# Altium schematic symbol library OpAmps.SchLib: 21 symbols
Pins are listed as number, name and electrical type; pins without a type are passive.

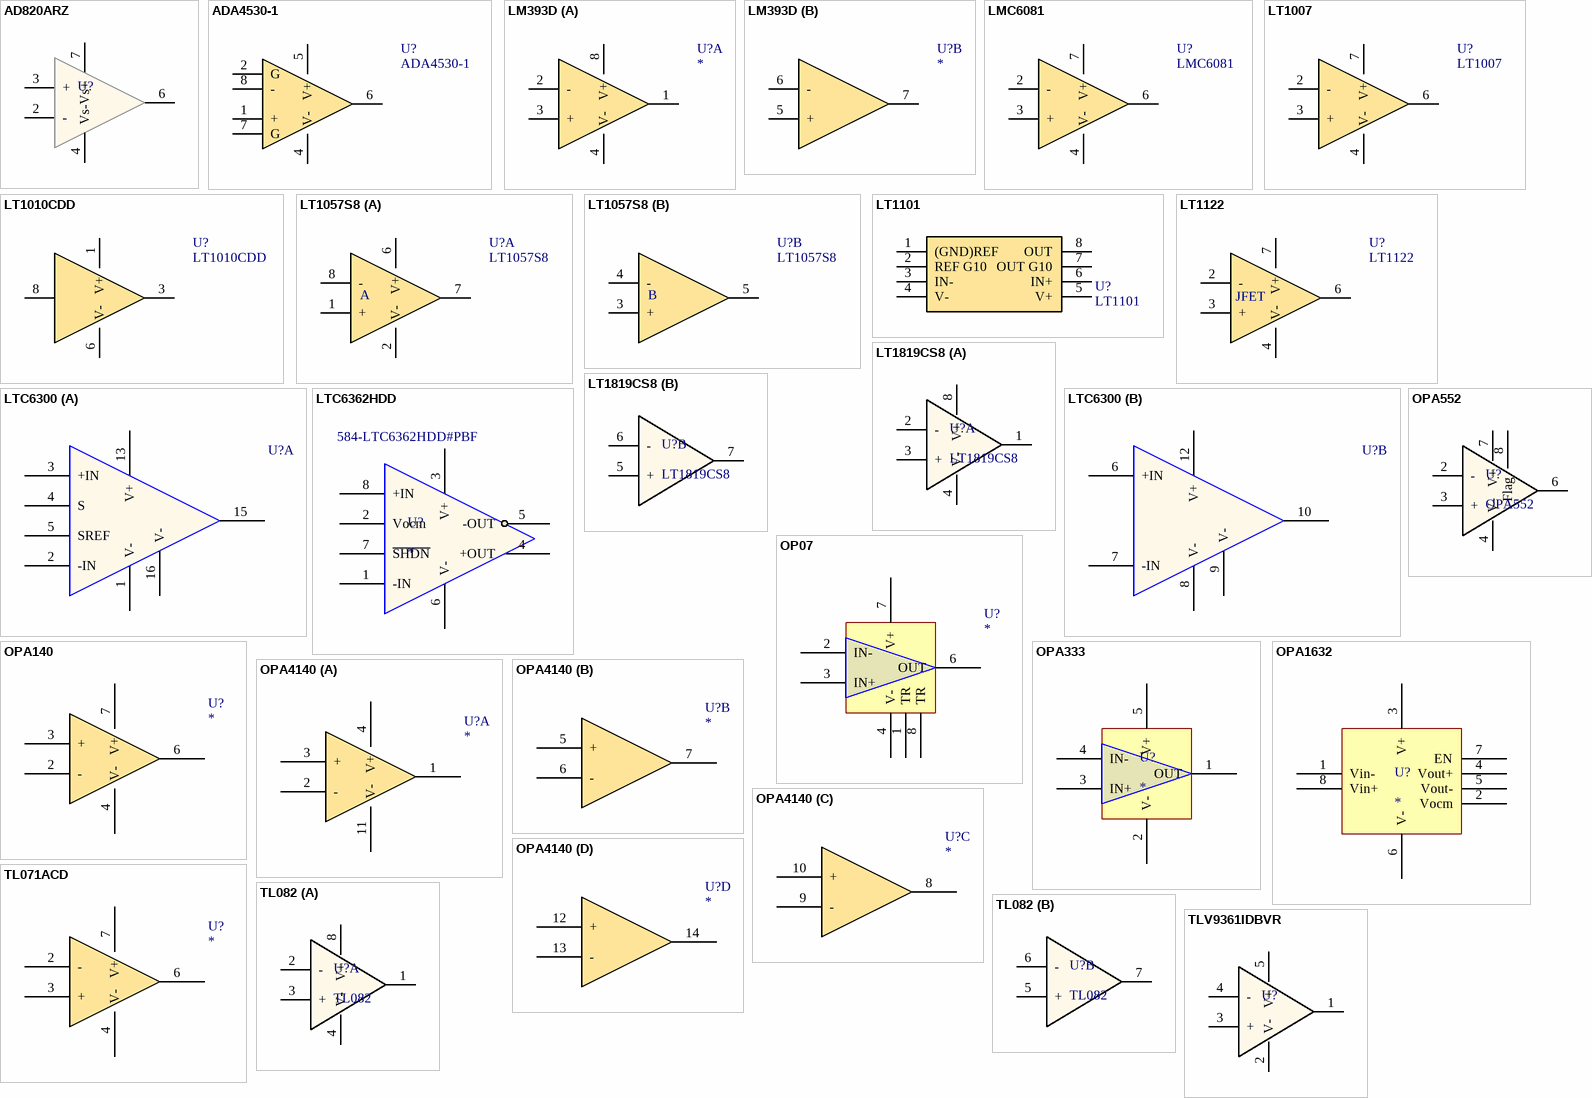
[diagram p0: symbols AD820ARZ to TLV9361IDBVR]

## AD820ARZ
designator U?
footprint SOIC-8 (Footprint not found)
pins: 2 -, 3 +, 4 Vs-, 6, 7 Vs+

## ADA4530-1
designator U?
Instrumentation Amplifiers Ultra low input bias current, 16V, prec; Supplier 1: Mouser; Supplier Part Number 1: 584-ADA4530-1ARZ-R7
footprint SOIC-8 (Footprint not found)
pins: 1 +, 2 G, 4 V-, 5 V+, 6, 7 G, 8 -

## LM393D
designator U?
Supplier 1: Digi-Key; Supplier 2: Mouser; Supplier Part Number 1: 296-28019-5-ND; Supplier Part Number 2: 595-OPA140AID
footprint SOIC-8 (Footprint not found)
part A pins: 1, 2 -, 3 +, 4 V-, 8 V+
part B pins: 5 +, 6 -, 7

## LMC6081
designator U?
Low offset voltage: 150 μV Operates from 4.5V to 15V single supply Ultra low input bias current: 10 fA; Supplier 1: Digi-Key; Supplier Part Number 1: 296-35439-1-ND
footprint SOIC-8 (Footprint not found)
pins: 2 -, 3 +, 4 V-, 6, 7 V+

## LT1007
designator U?
Low Noise, High Speed / Precision Operational Amplifiers; Supplier 1: Digi-Key; Supplier 2: Mouser; Supplier Part Number 1: LT1007CS8#PBF-ND; Supplier Part Number 2: 584-LT1007CS8#PBF
footprint SOIC-8 (Footprint not found)
pins: 2 -, 3 +, 4 V-, 6, 7 V+

## LT1010CDD
designator U?
Fast ±150mA Power Buffer; Supplier 1: Digi-Key; Supplier 2: Mouser; Supplier Part Number 1: 505-LT1010CDD#TRPBFCT-ND; Supplier Part Number 2: 584-LT1010CDD#TRPBF
footprint DFN-8 (Footprint not found)
pins: 1 V+, 3, 6 V-, 8

## LT1057S8
designator U?
Dual  JFET Input Precision High Speed Op Amps; Supplier 1: Mouser; Supplier 2: Digi-Key; Supplier Part Number 1: 584-LT1057S8#PBF; Supplier Part Number 2: 505-LT1057S8#PBF-ND
footprint SOIC-8 (Footprint not found)
part A pins: 1 +, 2 V-, 6 V+, 7, 8 -
part B pins: 3 +, 4 -, 5
part A text: A
part B text: B

## LT1101
designator U?
The LT1101 is completely self-contained: no external gain / setting resistor is required. The LT1101 combines its / micropower operation (75µA supply current) with a / gain error of 0.008%, gain linearity of 3ppm, gain drift of / 1ppm/°C. The output is guaranteed to drive a 2k load to / ±10V with excellent gain accuracy.; Supplier 1: Mouser; Supplier 2: Digi-Key; Supplier Part Number 1: 584-LT1101CN8#PBF; Supplier Part Number 2: LT1101CN8#PBF-ND
footprint DIP-8 (Footprint not found)
pins: 1 (GND)REF, 2 REF G10, 3 IN-, 4 V-, 5 V+, 6 IN+, 7 OUT G10, 8 OUT

## LT1122
designator U?
Fast Settling, JFET Input / Operational Amplifier; Supplier 1: Digi-Key; Supplier 2: Mouser; Supplier Part Number 1: LT1122DS8#PBF-ND; Supplier Part Number 2: 584-LT1122CS8#PBF
footprint SOIC-8 (Footprint not found)
pins: 2 -, 3 +, 4 V-, 6, 7 V+
text: JFET

## LT1819CS8
designator U?
Supplier 1: Digi-Key; Supplier Part Number 1: LT1819CS8#TRPBFCT-ND
footprint SOIC-8 (Footprint not found)
part A pins: 1, 2 -, 3 +, 4 V-, 8 V+
part B pins: 5 +, 6 -, 7

## LTC6300
designator U?
Supplier 1: Mouser; Supplier 2: Digi-Key; Supplier Part Number 1: 584-LT6300IGN#PBF; Supplier Part Number 2: LT6300IGN#PBF-ND
footprint SSOP-16 (SOP, 16-Leads, Body 4.91x3.90mm, Pitch 0.64mm, IPC High Density)
part A pins: 1 V-, 2 -IN, 3 +IN, 4 S, 5 SREF, 13 V+, 15, 16 V-
part B pins: 6 +IN, 7 -IN, 8 V-, 9 V-, 10, 12 V+

## LTC6362HDD
designator U?  Supplier Part Number 1: 584-LTC6362HDD#PBF
Supplier 1: Mouser
footprint DFN-8 (DFN, 8-Leads, Body 3.00x3.00mm, Pitch 0.50mm, Thermal Pad 1.65x1.65mm, IPC High Density)
pins: 1 -IN, 2 Vocm, 3 V+, 4 +OUT, 5 -OUT, 6 V-, 7 ~{SHDN}, 8 +IN

## OP07
designator U?
Supplier 1: Mouser; Supplier Part Number 1: 595-OP07CDR
footprint SOIC-8 (Footprint not found)
pins: 1 TR, 2 IN-, 3 IN+, 4 V-, 6 OUT, 7 V+, 8 TR

## OPA140
designator U?
Supplier 1: Digi-Key; Supplier 2: Mouser; Supplier Part Number 1: 296-28019-5-ND; Supplier Part Number 2: 595-OPA140AID
footprint SOIC-8 (Footprint not found)
pins: 2 -, 3 +, 4 V-, 6, 7 V+

## OPA333
designator U?
footprint SOT23-5 (Footprint not found)
pins: 1 OUT, 2 V-, 3 IN+, 4 IN-, 5 V+

## OPA552
designator U?
Supplier 1: Digi-Key; Supplier 2: Mouser; Supplier Part Number 1: OPA552UA-ND; Supplier Part Number 2: 595-OPA552UA
footprint SOIC-8 (Footprint not found)
pins: 2 -, 3 +, 4 V-, 6, 7 V+, 8 Flag

## OPA1632
designator U?
footprint SOIC-8 (Footprint not found)
pins: 1 Vin-, 2 Vocm, 3 V+, 4 Vout+, 5 Vout-, 6 V-, 7 EN, 8 Vin+

## OPA4140
designator U?
Supplier 1: Mouser; Supplier Part Number 1: 595-OPA4140AID
footprint SOIC-14 (Footprint not found)
part A pins: 1, 2 -, 3 +, 4 V+, 11 V-
part B pins: 5 +, 6 -, 7
part C pins: 8, 9 -, 10 +
part D pins: 12 +, 13 -, 14

## TL071ACD
designator U?
Supplier 1: Digi-Key; Supplier 2: Mouser; Supplier Part Number 1: 296-26693-5-ND; Supplier Part Number 2: 595-TL071ACD
footprint SOIC-8 (Footprint not found)
pins: 2 -, 3 +, 4 V-, 6, 7 V+

## TL082
designator U?
footprint SOIC-8 (Footprint not found)
part A pins: 1, 2 -, 3 +, 4 V-, 8 V+
part B pins: 5 +, 6 -, 7

## TLV9361IDBVR
designator U?  (value not drawn)
footprint SOT-23-5 (Footprint not found)
pins: 1, 2 V-, 3 +, 4 -, 5 V+